# Altium schematic symbol library TI DC-DC.SchLib: 1 symbol
Pins are listed as number, name and electrical type; pins without a type are passive.

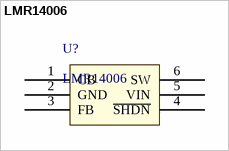
[diagram p0: symbol LMR14006]

## LMR14006
designator U?
40 V 600 mA Buck Regulator With High Efficiency Sleep  Mode; Manufacturer: Texas Instruments; Manufacturer Part Number: LMR14006XDDCT
footprint SOT23-6 (SOT23, 5-Leads, Body 2.90x2.45mm, Pitch 0.95mm, IPC Medium Density)
pins: 1 CB, 2 GND, 3 FB, 4 ~{SHDN}, 5 VIN, 6 SW